# EAGLE library part MMBD4448HTW (library RoboJackets-Diodes)
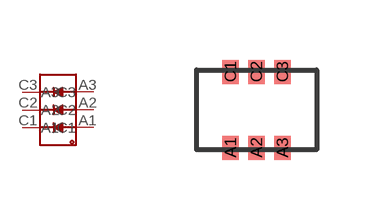
[diagram p0: symbol with the pads of MMBD4448HTW; footprint MMBD4448HTW]

Designator prefix -

## MMBD4448HTW  [MMBD4448HTW]
A1  A1
A2  A2
A3  A3
C1  C1
C2  C2
C3  C3

## Footprint MMBD4448HTW (pad centres in mm)
smd 0.42 x 0.6: A1 -0.65,-0.95; A2 0,-0.95; A3 0.65,-0.95; C1 -0.65,0.95; C2 0,0.95; C3 0.65,0.95